# EAGLE library part ADG734 (library original)
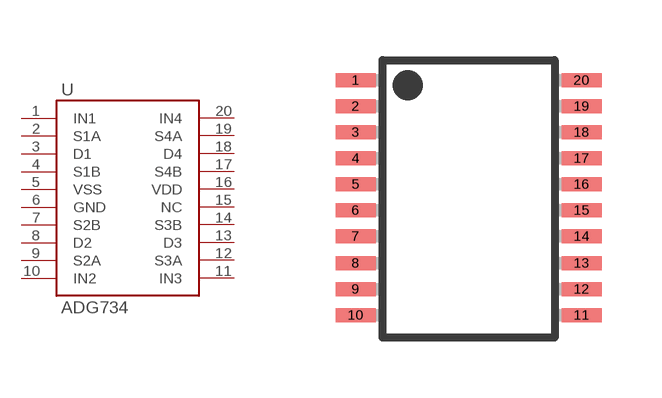
[diagram p0: symbol with the pads of TSSOP20; footprint TSSOP20]

Designator prefix U

## ADG734  [TSSOP20]
1  IN1
2  S1A
3  D1
4  S1B
5  VSS
6  GND
7  S2B
8  D2
9  S2A
10  IN2
11  IN3
12  S3A
13  D3
14  S3B
15  NC
16  VDD
17  S4B
18  D4
19  S4A
20  IN4

## Footprint TSSOP20 (pad centres in mm)
smd 1 x 0.35: 1 -2.825,2.966; 2 -2.825,2.316; 3 -2.825,1.666; 4 -2.825,1.016; 5 -2.825,0.366; 6 -2.825,-0.284; 7 -2.825,-0.934; 8 -2.825,-1.606; 9 -2.825,-2.256; 10 -2.825,-2.906; 11 2.825,-2.906; 12 2.825,-2.256; 13 2.825,-1.606; 14 2.825,-0.934; 15 2.825,-0.284; 16 2.825,0.366; 17 2.825,1.016; 18 2.825,1.666; 19 2.825,2.316; 20 2.825,2.966